# Altium footprint library PcbLib1.PcbLib: 1 footprints
Each footprint in its own frame and in the unit in brackets; x right, y up, seen from the top. Pads: shape width x height; smd on the part's side, far side on the other; paste and mask are expansions set on the pad; w line width, h text height; cw(c..) or ccw(c..) is an arc to the next point about the centre after c.
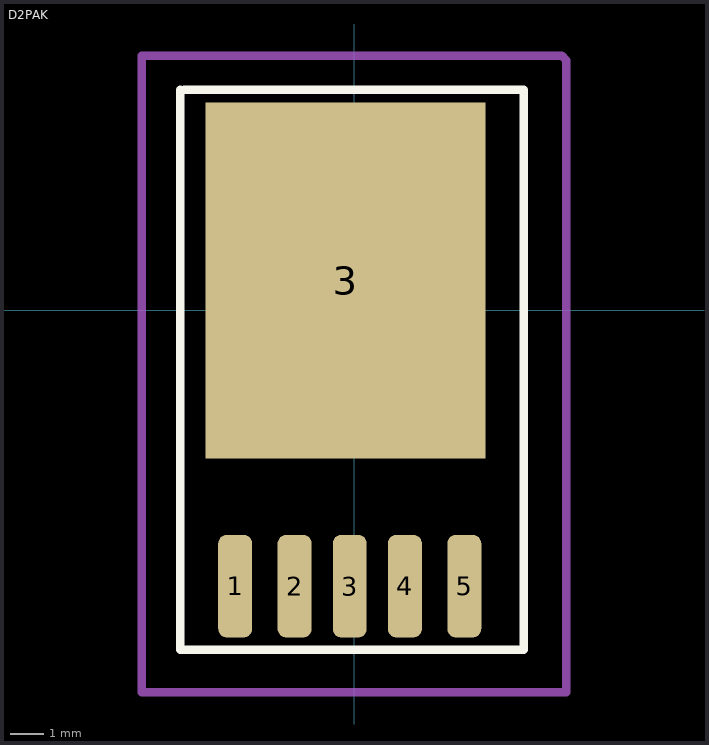
[diagram p0: the footprint, top view; thin cyan lines are the x and y axes]

## D2PAK [mil]
pads (6):
  rrect50% 40x121.06 smd: 1(-140,-325) 2(-70,-325) 3(-5,-325) 4(60,-325) 5(130,-325)
  rect 329.92x419.69 smd: 3(-10,35)
Top Overlay:
  lines w10: -205,260 -205,-400 200,-400 200,260 -200,260
Mechanical 15:
  lines w3.94: -20,0 20,0 ; 0,-20 0,20
  lines w10: -250,-450 250,-450 250,295 245,300 -250,300 -250,-450
3D body "TO263-5-1.stp": height 165.95, standoff 0, extent -198.33,-376.4 188.35,198.47